# Altium schematic symbol library AND_5PIN.SchLib: 1 symbol
Pins are listed as number, name and electrical type; pins without a type are passive.

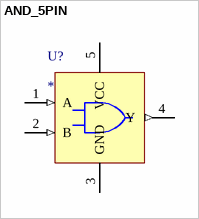
[diagram p0: symbol AND_5PIN]

## AND_5PIN
designator U?
Single AND gate in 5-pin package
pins: 1 A (in), 2 B (in), 3 GND (power), 4 Y (out), 5 VCC (power)